# Altium footprint library 16-VFQFN.PcbLib: 1 footprints
Each footprint in its own frame and in the unit in brackets; x right, y up, seen from the top. Pads: shape width x height; smd on the part's side, far side on the other; paste and mask are expansions set on the pad; w line width, h text height; cw(c..) or ccw(c..) is an arc to the next point about the centre after c.
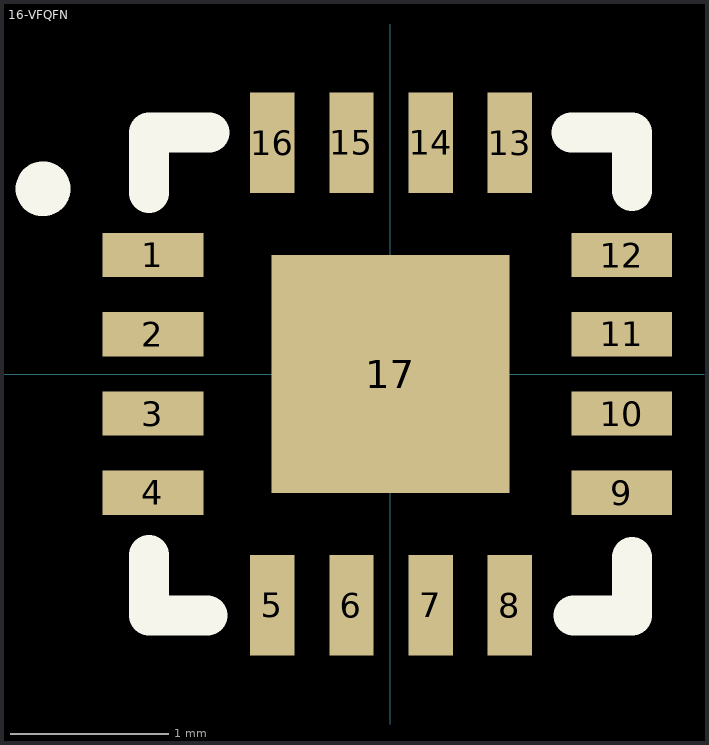
[diagram p0: the footprint, top view; thin cyan lines are the x and y axes]

## 16-VFQFN [mil]
pads (17):
  rect 25x11.02 smd: 1(-59,29.56) 2(-59,9.87) 3(-59,-9.81) 4(-59,-29.5) 9(57.5,-29.5) 10(57.5,-9.81) 11(57.5,9.87) 12(57.5,29.56)
  rect 11.02x25 smd: 5(-29.37,-57.5) 6(-9.69,-57.5) 7(10,-57.5) 8(29.68,-57.5) 13(29.68,57.5) 14(10,57.5) 15(-9.69,57.5) 16(-29.37,57.5)
  rect 59.06x59.06 smd: 17(0,0)
Top Overlay:
  circle w10: c-86.3,46 r1.8
  lines w10: -60,-45 -60,-60 -45.5,-60 ; -60,45 -60,60 -45,60 ; 45,60 60,60 60,45.5 ; 45.5,-60 60,-60 60,-45.5